# Altium footprint library PCB - LEADLESS - TQFP - MICROCHIP PT TQFP-100 12X12.PCBLIB: 1 footprints
Each footprint in its own frame and in the unit in brackets; x right, y up, seen from the top. Pads: shape width x height; smd on the part's side, far side on the other; paste and mask are expansions set on the pad; w line width, h text height; cw(c..) or ccw(c..) is an arc to the next point about the centre after c.
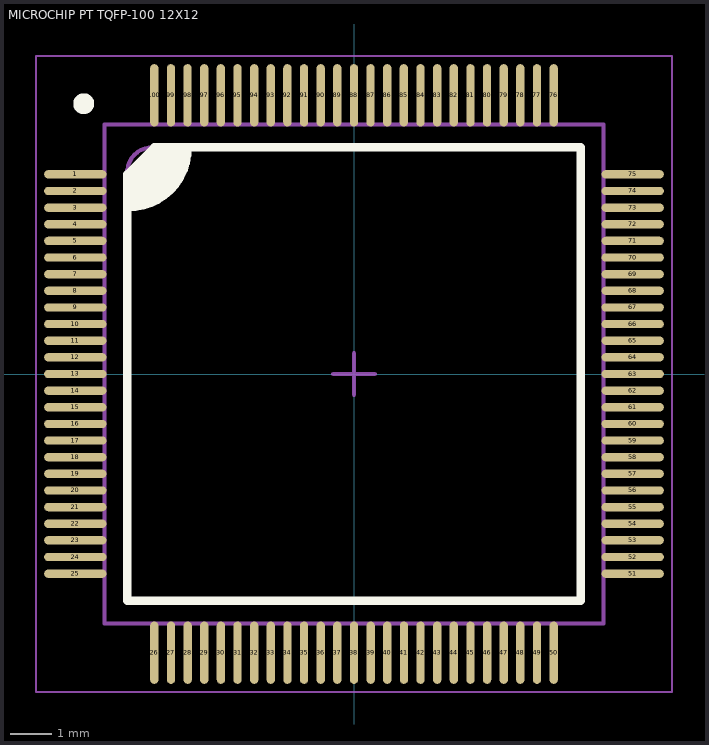
[diagram p0: the footprint, top view; thin cyan lines are the x and y axes]

## MICROCHIP PT TQFP-100 12X12 [mm] "TQFP, 100-Leads, Body 12.00x12.00mm, Pitch 0.40mm, IPC Medium Density"
height 1.2
pads (100):
  oval 1.5x0.2 smd mask+0: 1(-6.7,4.8) 2(-6.7,4.4) 3(-6.7,4) 4(-6.7,3.6) 5(-6.7,3.2) 6(-6.7,2.8) 7(-6.7,2.4) 8(-6.7,2) 9(-6.7,1.6) 10(-6.7,1.2) 11(-6.7,0.8) 12(-6.7,0.4) 13(-6.7,0) 14(-6.7,-0.4) 15(-6.7,-0.8) 16(-6.7,-1.2) 17(-6.7,-1.6) 18(-6.7,-2) 19(-6.7,-2.4) 20(-6.7,-2.8) 21(-6.7,-3.2) 22(-6.7,-3.6) 23(-6.7,-4) 24(-6.7,-4.4) 25(-6.7,-4.8) 51(6.7,-4.8) 52(6.7,-4.4) 53(6.7,-4) 54(6.7,-3.6) 55(6.7,-3.2) 56(6.7,-2.8) 57(6.7,-2.4) 58(6.7,-2) 59(6.7,-1.6) 60(6.7,-1.2) 61(6.7,-0.8) 62(6.7,-0.4) 63(6.7,0) 64(6.7,0.4) 65(6.7,0.8) 66(6.7,1.2) 67(6.7,1.6) 68(6.7,2) 69(6.7,2.4) 70(6.7,2.8) 71(6.7,3.2) 72(6.7,3.6) 73(6.7,4) 74(6.7,4.4) 75(6.7,4.8)
  oval 0.2x1.5 smd mask+0: 26(-4.8,-6.7) 27(-4.4,-6.7) 28(-4,-6.7) 29(-3.6,-6.7) 30(-3.2,-6.7) 31(-2.8,-6.7) 32(-2.4,-6.7) 33(-2,-6.7) 34(-1.6,-6.7) 35(-1.2,-6.7) 36(-0.8,-6.7) 37(-0.4,-6.7) 38(0,-6.7) 39(0.4,-6.7) 40(0.8,-6.7) 41(1.2,-6.7) 42(1.6,-6.7) 43(2,-6.7) 44(2.4,-6.7) 45(2.8,-6.7) 46(3.2,-6.7) 47(3.6,-6.7) 48(4,-6.7) 49(4.4,-6.7) 50(4.8,-6.7) 76(4.8,6.7) 77(4.399,6.7) 78(3.999,6.7) 79(3.599,6.7) 80(3.199,6.7) 81(2.799,6.7) 82(2.399,6.7) 83(1.999,6.7) 84(1.599,6.7) 85(1.199,6.7) 86(0.799,6.7) 87(0.399,6.7) 88(-0.001,6.7) 89(-0.401,6.7) 90(-0.801,6.7) 91(-1.201,6.7) 92(-1.601,6.7) 93(-2.001,6.7) 94(-2.401,6.7) 95(-2.801,6.7) 96(-3.201,6.7) 97(-3.601,6.7) 98(-4.001,6.7) 99(-4.401,6.7) 100(-4.801,6.7)
Top Overlay:
  circle w0.25: c-6.5,6.5 r0.125
  region: -4.781,5.469 -3.989,5.469 -4.1,4.8 -4.717,4.183 -5.45,4 -5.45,4.8
  lines w0.2: -5.45,4.017 ccw(c-5.394,5.406) -4.005,5.45 ; -5.45,-5.45 -5.45,4.8 -4.8,5.45 5.45,5.45 5.45,-5.45 -5.45,-5.45
Mechanical 13:
  circle w0.1: c-4.85,4.85 r0.602
  lines w0.1: -6,-6 -6,6 6,6 6,-6 -6,-6
Mechanical 15:
  lines w0.05: -7.65,-7.65 -7.65,7.65 7.65,7.65 7.65,-7.65 -7.65,-7.65
  lines w0.1: -0.5,0 0.5,0 ; 0,-0.5 0,0.5
3D body "Microchip - PT TQFP-100 12x12.step": height 1.1, standoff 0, extent -7,-7 7,7